# Altium footprint library INDPM173169X700N.PcbLib: 1 footprints
Each footprint in its own frame and in the unit in brackets; x right, y up, seen from the top. Pads: shape width x height; smd on the part's side, far side on the other; paste and mask are expansions set on the pad; w line width, h text height; cw(c..) or ccw(c..) is an arc to the next point about the centre after c.
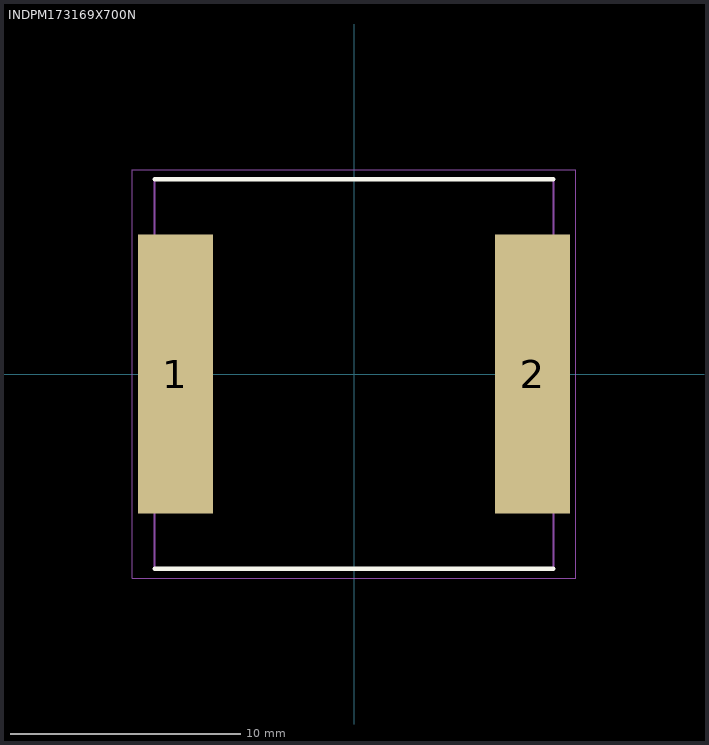
[diagram p0: the footprint, top view; thin cyan lines are the x and y axes]

## INDPM173169X700N [mm]
pads (2):
  rect 3.25x12.1 smd: 1(-7.75,0) 2(7.75,0)
L26-Silk Screen Top (Multiple PADS layers...):
  lines w0.2: -8.65,-8.45 8.65,-8.45 ; -8.65,8.45 8.65,8.45
L15 (Multiple PADS layers...):
  lines w0.1: -8.65,-8.45 8.65,-8.45 8.65,8.45 -8.65,8.45 -8.65,-8.45
L20:
  lines w0.05: -9.625,-8.85 9.625,-8.85 9.625,8.85 -9.625,8.85 -9.625,-8.85
3D body "SRP1770TA-560M.stp": height 7, standoff 0, extent -8.65,-8.577 8.65,8.323